# Altium footprint library SHT31-DIS-P2.5KS.PcbLib: 1 footprints
Each footprint in its own frame and in the unit in brackets; x right, y up, seen from the top. Pads: shape width x height; smd on the part's side, far side on the other; paste and mask are expansions set on the pad; w line width, h text height; cw(c..) or ccw(c..) is an arc to the next point about the centre after c.
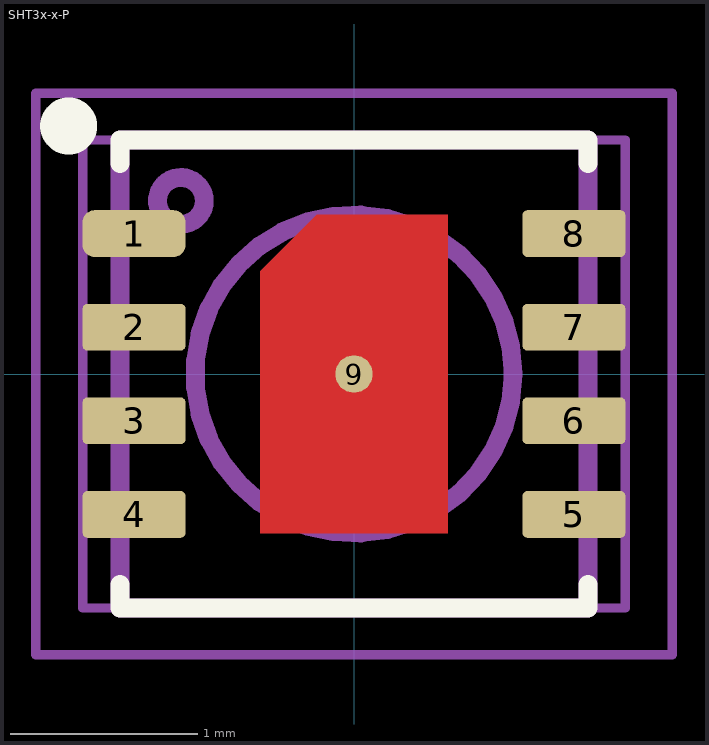
[diagram p0: the footprint, top view; thin cyan lines are the x and y axes]

## SHT3x-x-P [mm] "SHT3x with Plastic"
height 1
pads (9):
  rrect50% 0.55x0.25 smd mask+0.05: 1(-1.175,0.75)
  rrect20% 0.55x0.25 smd mask+0.05: 2(-1.175,0.25) 3(-1.175,-0.25) 4(-1.175,-0.75) 5(1.175,-0.75) 6(1.175,-0.25) 7(1.175,0.25) 8(1.175,0.75)
  round 0.2 smd mask+0.05: 9(0,0)
Top Layer:
  region: 0.5,-0.85 -0.5,-0.85 -0.5,0.55 -0.2,0.85 0.5,0.85
Top Overlay:
  circle w0.254: c-1.525,1.325 r0.025
  lines w0.1: -1.25,-1.125 -1.25,-1.25 1.25,-1.25 1.25,-1.125 ; -1.25,1.125 -1.25,1.25 1.25,1.25 1.25,1.125
Top Assembly:
  circle w0.1: c-0.925,0.925 r0.125
  circle w0.1: c0,0 r0.85
  lines w0.1: -1.25,-1.25 -1.25,1.25 1.25,1.25 1.25,-1.25 -1.25,-1.25
Top Component Outline:
  lines w0.05: -1.45,-1.25 1.45,-1.25 1.45,1.25 -1.45,1.25 -1.45,-1.25
Top Courtyard:
  lines w0.05: -0.2,0 0.2,0 ; 0,-0.2 0,0.2 ; -1.7,-1.5 -1.7,1.5 1.7,1.5 1.7,-1.5 -1.7,-1.5
Top Component Center:
  lines w0.05: -0.2,0 0.2,0 ; 0,-0.2 0,0.2
3D body: height 0.95, standoff 0.9, extent -1.15,-1.15 1.15,2.65
3D body "Sensirion_Humidity_SHT3x_STEP-file.STEP": height 0.9, standoff 0, extent -1.251,-1.251 1.251,1.251
3D body: height 1.25, standoff -1.25, extent -0.8,-1.7 -0.8,-1.7